# Altium integrated library CR1206-FX-1004ELF.IntLib: 1 symbol
Pins are listed as number, name and electrical type; pins without a type are passive.

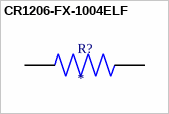
[diagram p0: symbol CR1206-FX-1004ELF]

## CR1206-FX-1004ELF
designator R?
Res 1206 1M 1% 250mW | Bourns CR1206-FX-1004ELF; SnapEDA_Link: https://www.snapeda.com/parts/CR1206-FX-1004ELF/Bourns/view-part/?ref=snap; Package: 3216 Bourns; Value: *; MF: Bourns; MP: CR1206-FX-1004ELF; Check_prices: https://www.snapeda.com/parts/CR1206-FX-1004ELF/Bourns/view-part/?ref=eda
footprint RESC3216X75N
pins: 1, 2